# EAGLE library part INA219 (library rpi-zero)
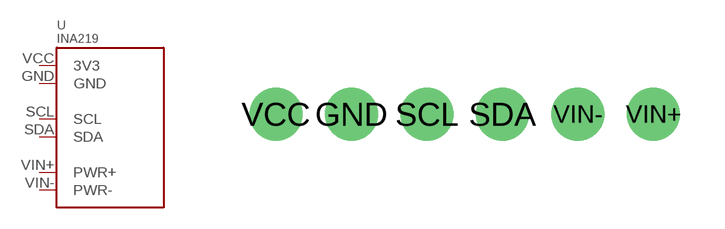
[diagram p1: symbol with the pads of INA219; footprint INA219]

Designator prefix -

## INA219  [INA219]
GND  GND  sup
SCL  SCL
SDA  SDA
VCC  3V3  sup
VIN+  PWR+  in
VIN-  PWR-  out

## Footprint INA219 (pad centres in mm)
INA 219 Module
drill 1.016 pad 1.778: GND 9.271,2.794; SCL 11.811,2.794; SDA 14.351,2.794; VCC 6.731,2.794; VIN+ 19.431,2.794; VIN- 16.891,2.794